# Altium schematic symbol library Sheet_1_2026-04-01.SCHLIB: 5 symbols
Pins are listed as number, name and electrical type; pins without a type are passive.

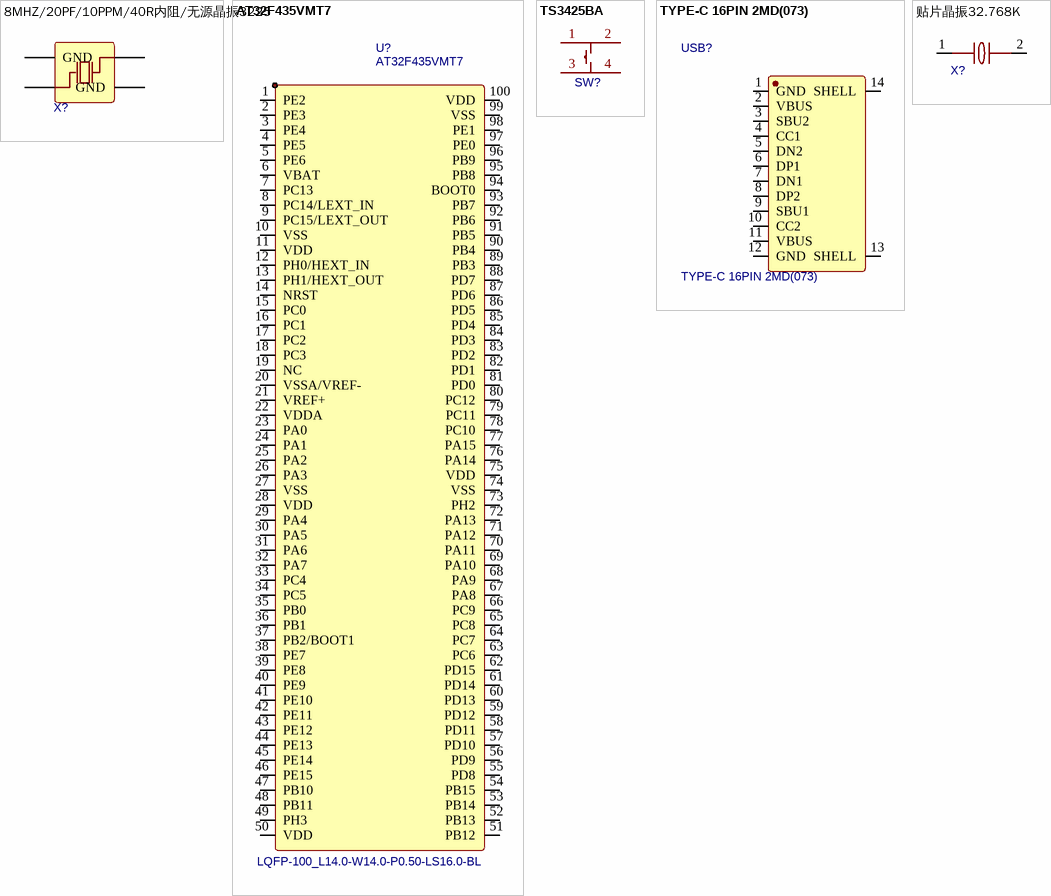
[diagram p0: symbols 8MHZ/20PF/10PPM/40R内阻/无源晶振3225 to 贴片晶振32.768K]

## 8MHZ/20PF/10PPM/40R内阻/无源晶振3225
designator X?  (value not drawn)
Manufacturer: null; Contributor: lcsc; Supplier: LCSC; Supplier Part: C9900023313; Manufacturer Part: 8Mhz/20PF/10PPM/40R内阻/无源晶振3225; JLCPCB Part Class: Extended Part; spicePre: X; spiceSymbolName: 8MHZ/20PF/10PPM/40R内阻/无源晶振3225
footprint CRYSTAL-SMD_4P-L3.2-W2.5-BL
pins: 1 OSC1, 2 GND, 3 OSC2, 4 GND

## AT32F435VMT7
designator U?
Manufacturer: ARTERY(雅特力); Contributor: lcsc; Package Display: Yes; Supplier: LCSC; Supplier Part: C5178941; Manufacturer Part: AT32F435VMT7; JLCPCB Part Class: Extended Part; spicePre: U; spiceSymbolName: AT32F435VMT7
footprint LQFP-100_L14.0-W14.0-P0.50-LS16.0-BL
pins: 1 PE2, 2 PE3, 3 PE4, 4 PE5, 5 PE6, 6 VBAT, 7 PC13, 8 PC14/LEXT_IN, 9 PC15/LEXT_OUT, 10 VSS, 11 VDD, 12 PH0/HEXT_IN, 13 PH1/HEXT_OUT, 14 NRST, 15 PC0, 16 PC1, 17 PC2, 18 PC3, 19 NC, 20 VSSA/VREF-, 21 VREF+, 22 VDDA, 23 PA0, 24 PA1, 25 PA2, 26 PA3, 27 VSS, 28 VDD, 29 PA4, 30 PA5, 31 PA6, 32 PA7, 33 PC4, 34 PC5, 35 PB0, 36 PB1, 37 PB2/BOOT1, 38 PE7, 39 PE8, 40 PE9, 41 PE10, 42 PE11, 43 PE12, 44 PE13, 45 PE14, 46 PE15, 47 PB10, 48 PB11, 49 PH3, 50 VDD, 51 PB12, 52 PB13, 53 PB14, 54 PB15, 55 PD8, 56 PD9, 57 PD10, 58 PD11, 59 PD12, 60 PD13, 61 PD14, 62 PD15, 63 PC6, 64 PC7, 65 PC8, 66 PC9, 67 PA8, 68 PA9, 69 PA10, 70 PA11, 71 PA12, 72 PA13, 73 PH2, 74 VSS, 75 VDD, 76 PA14, 77 PA15, 78 PC10, 79 PC11, 80 PC12, 81 PD0, 82 PD1, 83 PD2, 84 PD3, 85 PD4, 86 PD5, 87 PD6, 88 PD7, 89 PB3, 90 PB4, 91 PB5, 92 PB6, 93 PB7, 94 BOOT0, 95 PB8, 96 PB9, 97 PE0, 98 PE1, 99 VSS, 100 VDD
text: LQFP-100_L14.0-W14.0-P0.50-LS16.0-BL

## TS3425BA
designator SW?  (value not drawn)
Manufacturer: SHOU HAN(首韩); Contributor: LCSC; Package Display: No; Supplier: LCSC; Supplier Part: C2681476; Manufacturer Part: TS3425BA; JLCPCB Part Class: Extended Part; spicePre: S; spiceSymbolName: TS3425BA
footprint SW-SMD_4P-L4.2-W3.2-P2.15-LS4.6-1
pins: 1, 2, 3, 4

## TYPE-C 16PIN 2MD(073)
designator USB?
Manufacturer: SHOU HAN(首韩); Contributor: LCSC; Package Display: Yes; Supplier: LCSC; Supplier Part: C2765186; Manufacturer Part: TYPE-C 16PIN 2MD(073); JLCPCB Part Class: Extended Part; spicePre: U; spiceSymbolName: TYPE-C 16PIN 2MD(073)
footprint USB-C-SMD_TYPE-C-6PIN-2MD-073
pins: 1 GND, 2 VBUS, 3 SBU2, 4 CC1, 5 DN2, 6 DP1, 7 DN1, 8 DP2, 9 SBU1, 10 CC2, 11 VBUS, 12 GND, 13 SHELL, 14 SHELL

## 贴片晶振32.768K
designator X?  (value not drawn)
Contributor: LCSC; Supplier: LCSC; Supplier Part: C9900003950; Manufacturer Part: 贴片晶振32.768k; JLCPCB Part Class: Extended Part; spicePre: X; spiceSymbolName: 贴片晶振32.768K
footprint OSC-SMD_2P-L3.2-W1.5-1
pins: 1, 2